# Altium footprint library XAL6060-562MEB.PcbLib: 3 footprints
Each footprint in its own frame and in the unit in brackets; x right, y up, seen from the top. Pads: shape width x height; smd on the part's side, far side on the other; paste and mask are expansions set on the pad; w line width, h text height; cw(c..) or ccw(c..) is an arc to the next point about the centre after c.
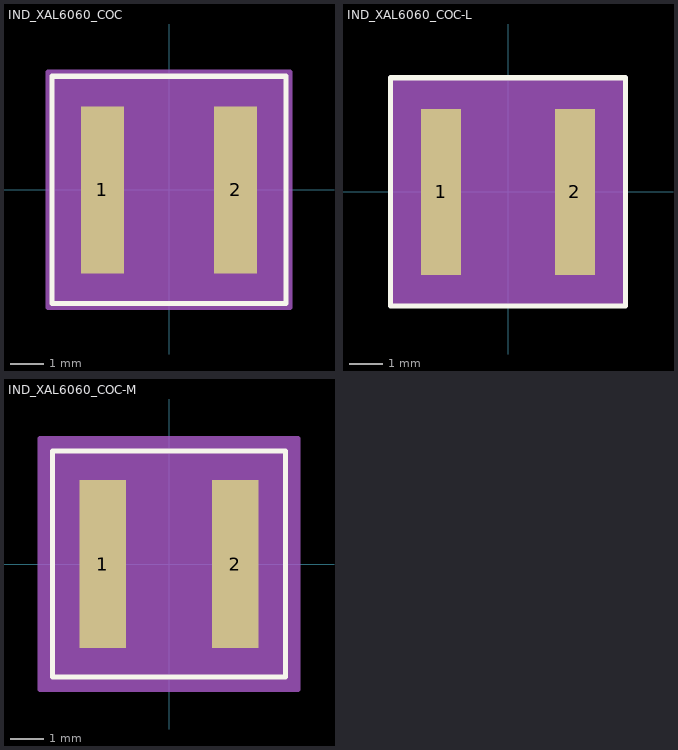
[diagram p0: the footprints below, top view; thin cyan lines are the x and y axes]

## IND_XAL6060_COC [mil]
pads (2):
  rect 51x197 smd paste+0 mask+0: 1(-78.5,0) 2(78.5,0)
Top Overlay:
  lines w6: -138,-134 138,-134 138,134 -138,134 -138,-134
Mechanical 13:
  circle w0: c-53,0 r3
  lines w0: -12,129 ccw(c0,129) 12,129
  lines w1: -133,-129 133,-129 133,129 -133,129 -133,-129
Mechanical 15:
  region: -143,-108.5 -143,108.5 -143,139 143,139 143,108.5 143,-108.5 143,-139 -143,-139
  lines w6: -143,-108.5 -143,108.5 ; -143,-108.5 -143,-108.5 ; -143,-108.5 -143,-139 143,-139 143,-108.5 ; -143,108.5 -143,108.5 ; -143,108.5 -143,139 143,139 143,108.5 ; 143,-108.5 143,108.5 ; 143,-108.5 143,-108.5 ; 143,108.5 143,108.5
3D body "IND_XAL6060_COC.step": height 240.12, standoff 0, extent -132.99,-129.02 132.99,129.02

## IND_XAL6060_COC-L [mil]
pads (2):
  rect 47x195 smd paste+0 mask+0: 1(-78.5,0) 2(78.5,0)
Top Overlay:
  lines w6: -138,-134 138,-134 138,134 -138,134 -138,-134
Mechanical 13:
  circle w0: c-55,0 r3
  lines w0: -12,129 ccw(c0,129) 12,129
  lines w1: -133,-129 133,-129 133,129 -133,129 -133,-129
Mechanical 15:
  region: -137,-101.5 -137,101.5 -137,133 137,133 137,101.5 137,-101.5 137,-133 -137,-133
  lines w6: -137,-101.5 -137,101.5 ; -137,-101.5 -137,-101.5 ; -137,-101.5 -137,-133 137,-133 137,-101.5 ; -137,101.5 -137,101.5 ; -137,101.5 -137,133 137,133 137,101.5 ; 137,-101.5 137,101.5 ; 137,-101.5 137,-101.5 ; 137,101.5 137,101.5
3D body "IND_XAL6060_COC.step": height 240.12, standoff 0, extent -132.99,-129.02 132.99,129.02

## IND_XAL6060_COC-M [mil]
pads (2):
  rect 55x199 smd paste+0 mask+0: 1(-78.5,0) 2(78.5,0)
Top Overlay:
  lines w6: -138,-134 138,-134 138,134 -138,134 -138,-134
Mechanical 13:
  circle w0: c-51,0 r3
  lines w0: -12,129 ccw(c0,129) 12,129
  lines w1: -133,-129 133,-129 133,129 -133,129 -133,-129
Mechanical 15:
  region: -153,-119.5 -153,119.5 -153,149 153,149 153,119.5 153,-119.5 153,-149 -153,-149
  lines w6: -153,-119.5 -153,119.5 ; -153,-119.5 -153,-119.5 ; -153,-119.5 -153,-149 153,-149 153,-119.5 ; -153,119.5 -153,119.5 ; -153,119.5 -153,149 153,149 153,119.5 ; 153,-119.5 153,119.5 ; 153,-119.5 153,-119.5 ; 153,119.5 153,119.5
3D body "IND_XAL6060_COC.step": height 240.12, standoff 0, extent -132.99,-129.02 132.99,129.02